# EAGLE library part JST-XH-07-PIN (library JST-XH Connectors)
JST XH Connector 2 Pin Wire to board connector. Pitch: 2,54 mm, (0.100") Number of pins: 7 Created by Rembrandt Electronics www.rembrandtelectronics.com
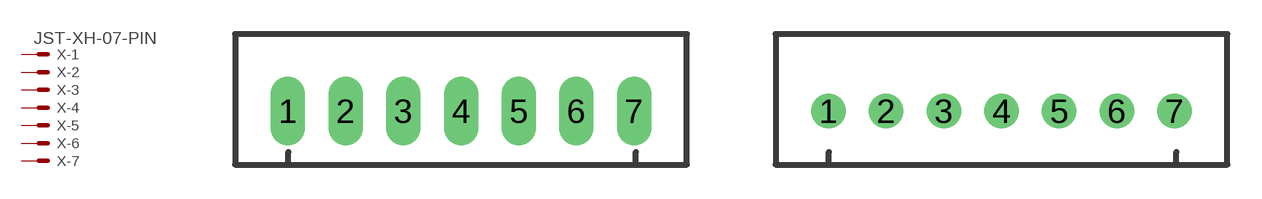
[diagram p1: symbol with the pads of JST-XH-07-PACKAGE-LONG-PAD; footprints JST-XH-07-PACKAGE-LONG-PAD, JST-XH-07-PACKAGE-ROUND-PAD]

Designator prefix X; gates -1=MV -2=M -3=M -4=M -5=M -6=M -7=M

## JST-XH-07-PIN-LONG-PAD  [JST-XH-07-PACKAGE-LONG-PAD]
1  -1:S  pas
2  -2:S  pas
3  -3:S  pas
4  -4:S  pas
5  -5:S  pas
6  -6:S  pas
7  -7:S  pas

## JST-XH-07-PIN-ROUND-PAD  [JST-XH-07-PACKAGE-ROUND-PAD]
Pads as for JST-XH-07-PACKAGE-LONG-PAD

## JST-XH-07-PIN  [JST-XH_S7B]
PIN1  -1:S  pas
PIN2  -2:S  pas
PIN3  -3:S  pas
PIN4  -4:S  pas
PIN5  -5:S  pas
PIN6  -6:S  pas
PIN7  -7:S  pas

## Footprint JST-XH-07-PACKAGE-LONG-PAD (pad centres in mm)
JST XH Connector Long Pads (Package) Wire to board connector. Pitch: 2,54 mm, (0.100") Number of pins: 7 Created by Rembrandt Electronics www.rembrandtelectronics.com
drill 1.016 long: 1 -7.62,0; 2 -5.08,0; 3 -2.54,0; 4 0,0; 5 2.54,0; 6 5.08,0; 7 7.62,0

## Footprint JST-XH-07-PACKAGE-ROUND-PAD (pad centres in mm)
JST XH Connector Round Pads (Package) Wire to board connector. Pitch: 2,54 mm, (0.100") Number of pins: 7 Created by Rembrandt Electronics www.rembrandtelectronics.com
drill 1.016: 1 -7.62,0; 2 -5.08,0; 3 -2.54,0; 4 0,0; 5 2.54,0; 6 5.08,0; 7 7.62,0

## Footprint JST-XH_S7B (pad centres in mm)
drill 1 pad 2 square: PIN1 0,0
drill 1 pad 2: PIN2 2.5,0; PIN3 5,0; PIN4 7.5,0; PIN5 10,0; PIN6 12.5,0; PIN7 15,0